# Altium schematic symbol library CAP-SM-0805-Y5V-2.2uF-25V.Schlib: 1 symbol
Pins are listed as number, name and electrical type; pins without a type are passive.

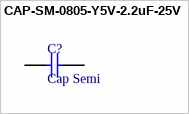
[diagram p0: symbol CAP-SM-0805-Y5V-2.2uF-25V]

## CAP-SM-0805-Y5V-2.2uF-25V
designator C?, comment Cap Semi
CAP SM 0805 Y5V MLCC 2.2uF 25V 10%
pins: 1, 2